# Altium footprint library ebf EP4CE10 Mini_20200309_PCB库_AD格式.PcbLib: 37 footprints (part 3 of 3)
Each footprint in its own frame and in the unit in brackets; x right, y up, seen from the top. Pads: shape width x height; smd on the part's side, far side on the other; paste and mask are expansions set on the pad; w line width, h text height; cw(c..) or ccw(c..) is an arc to the next point about the centre after c.
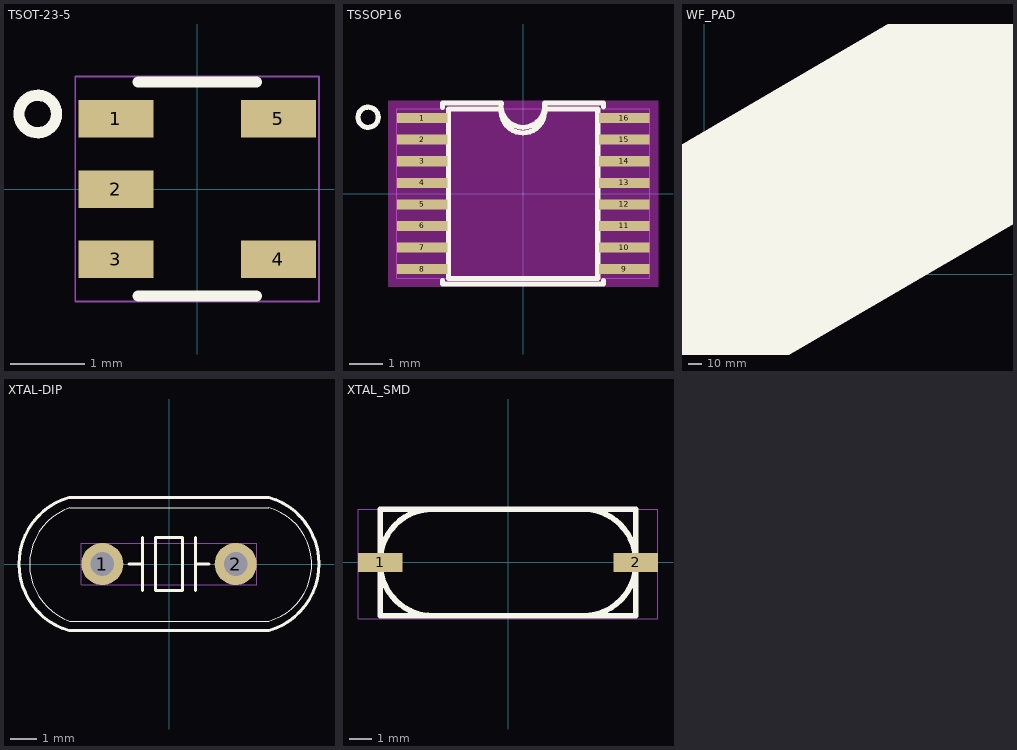
[diagram p2: the footprints below, top view; thin cyan lines are the x and y axes]

## TSOT-23-5 [mil]
pads (5):
  rect 40x20 smd mask+2.5: 1(-43.3,37.4) 2(-43.3,0) 3(-43.3,-37.4) 4(43.3,-37.4) 5(43.3,37.4)
Top Overlay:
  circle w6: c-85,40 r10
  lines w6: -31.5,-57.1 31.5,-57.1 -31.5,-57.1 ; -31.5,57.1 31.5,57.1 -31.5,57.1
Top Assembly:
  text "U3" at -40.28,-25.04 h50
Mechanical 20:
  lines w1: -65,-60 -65,60 65,60 65,-60 -65,-60

## TSSOP16 [mil]
pads (16):
  rect 60x12 smd mask+2: 1(-120,89.6) 2(-120,64) 3(-120,38.4) 4(-120,12.8) 5(-120,-12.8) 6(-120,-38.4) 7(-120,-64) 8(-120,-89.6) 9(120,-89.6) 10(120,-64) 11(120,-38.4) 12(120,-12.8) 13(120,12.8) 14(120,38.4) 15(120,64) 16(120,89.6)
Top Layer keep-out:
  region: -160,-110.5 -160,110.5 160,110.5 160,-110.5
Top Overlay:
  circle w6: c-184.02,90.59 r12.02
  lines w6: -95.5,-103 -95.5,-107.5 95.5,-107.5 95.5,-103 ; -95.5,102.5 -95.5,107.5 -26.3,107.5 ; -26,100.5 ccw(c-0.25,97.88) 25.5,100.5 88.5,100.5 88.5,-100.5 -88.5,-100.5 -88.5,100.5 -25.5,100.5 ; -26,107.52 ccw(c-0.25,104.63) 25.5,107.47 ; 25.5,107.5 95.5,107.5 95.5,103
Top Assembly:
  text "U12" at -58.61,-25.04 h50
Mechanical 20:
  lines w1: -150,-100.5 150,-100.5 150,100.5 -150,100.5 -150,-100.5

## WF_PAD [mil]
Top Overlay:
  drawing of 389 lines, arcs and shapes, not listed

## XTAL-DIP [mil]
pads (2):
  round 63 hole 35.4 mask+2: 1(-100,0) 2(100,0)
Top Overlay:
  lines w1: -148.73,-85.69 cw(c-118.93,-0.6) -148.73,84.49 ; -148.7,-85.7 149.5,-85.7 ; -148.7,84.5 149.5,84.5 ; 149.47,-85.71 ccw(c125.86,-0.6) 149.47,84.51
  lines w4.7: -150.08,99.98 ccw(c-120.85,0) -149.91,-100.03 ; -150,-100 150,-100 ; -150,100 150,100 ; -60,0 -40,0 ; -40,-40 -40,40 ; 40,-40 40,40 ; 40,0 60,0 ; 149.91,100.03 cw(c120.85,0) 150.08,-99.98 ; -20,-40 -20,40 20,40 20,-40 -20,-40
Top Assembly:
  text "Y4" at -40.16,-25.04 h50
Mechanical 20:
  lines w1: -131.5,-31.5 131.5,-31.5 131.5,31.5 -131.5,31.5 -131.5,-31.5

## XTAL_SMD [mil]
pads (2):
  rect 78.7x33.5 smd mask+2: 1(-226.4,0) 2(226.4,0)
Top Overlay:
  lines w10: -226.4,-2.7 -226.4,0 ; -226.4,-2.66 ccw(c-133.26,-1.36) -131.96,-94.5 ; -226.4,0.06 cw(c-133.26,1.36) -134.56,94.5 ; 131.97,94.5 cw(c133.27,1.37) 226.4,2.67 ; 134.57,-94.5 ccw(c133.27,-1.37) 226.4,-0.07 ; 226.4,0 226.4,2.7 ; -226.4,-94.5 226.4,-94.5 226.4,94.5 -226.4,94.5 -226.4,-94.5
Top Assembly:
  text "Y3" at -38.97,-25.04 h50
Mechanical 20:
  lines w1: -265.7,-100 -265.7,94.5 265.7,94.5 265.7,-100 -265.7,-100